# EAGLE library part CNC_TECH_3220-10-0100-00 (library Upverter Library)
BOX HEADER, 0.050 10 POS
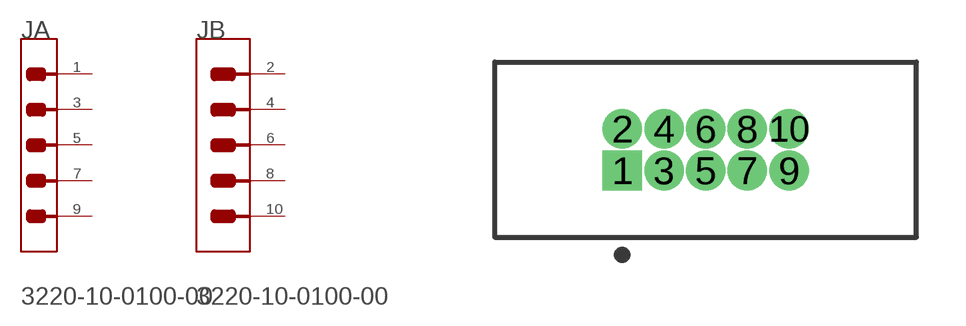
[diagram p0: symbol with the pads of CNC_TECH_3220-10-0100-00_0; footprint CNC_TECH_3220-10-0100-00_0]

Designator prefix J; gates A=CNC_TECH_3220-10-0100-00_0_0 B=CNC_TECH_3220-10-0100-00_0_1

## CNC_TECH_3220-10-0100-00CNC_TECH_3220-10-0100-00_0_0 (MF: CNC Tech; MPN: 3220-10-0100-00; automotive: No; centroid_not_specified: No; conn_gender: Male; conn_orientation: Straight; contact_material: Gold; current_rating: 1A; datasheet: http://www.cnctech.us/pdfs/3220-XX-0100-00.pdf; device_class_L1: Connectors; device_class_L2: Headers and Wire Housings; device_class_L3: unset; digikey_description: CONN HEADER VERT 10POS 1.27MM; digikey_part_number: 1175-1627-ND; footprint_variant_name_0: Recommended_Land_Pattern; height: 5.6mm; lead_free: Yes; mfg_package_ident: 3220-10-0100-00; mfg_package_ident_date: 0; mfg_package_ident_rev: 0; number_of_contacts: 10; number_of_rows: 2; package: HDR10; pitch: 1.27mm; prefix: J; rohs: Yes; temperature_range_high: +105°C; temperature_range_low: -40°C; verification_version: 0.0.0.1)  [CNC_TECH_3220-10-0100-00_0]
1  A:1  pas
2  B:2  pas
3  A:3  pas
4  B:4  pas
5  A:5  pas
6  B:6  pas
7  A:7  pas
8  B:8  pas
9  A:9  pas
10  B:10  pas

## Footprint CNC_TECH_3220-10-0100-00_0 (pad centres in mm)
BOX HEADER, 0.050 10 POS
drill 0.7 pad 1.17 square: 1 -2.54,-0.635
drill 0.7 pad 1.17 round: 2 -2.54,0.635; 3 -1.27,-0.635; 4 -1.27,0.635; 5 0,-0.635; 6 0,0.635; 7 1.27,-0.635; 8 1.27,0.635; 9 2.54,-0.635; 10 2.54,0.635